# EAGLE library part DSPIC30F6012 (library @Club_Microchip_divers-)
dsPIC General DSC with CAN and CoDec ports
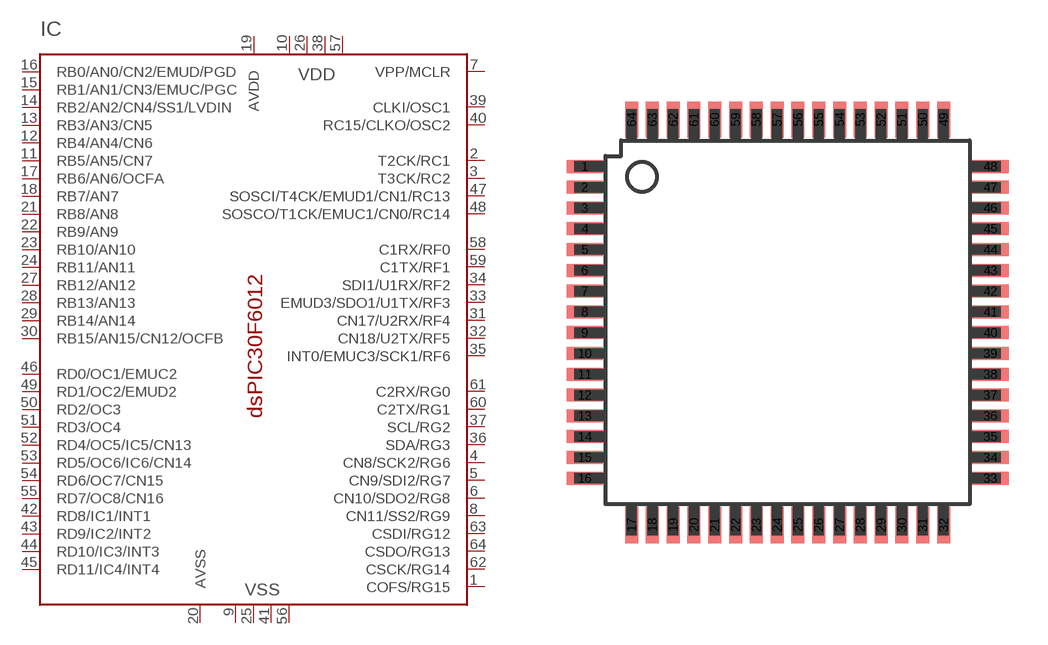
[diagram p5: symbol with the pads of TQFP64; footprint TQFP64]

Designator prefix IC

## DSPIC30F6012/PF  [TQFP64]
1  COFS/RG15
2  T2CK/RC1
3  T3CK/RC2
4  CN8/SCK2/RG6
5  CN9/SDI2/RG7
6  CN10/SDO2/RG8
7  VPP/MCLR  in
8  CN11/SS2/RG9
9  VSS  pwr
10  VDD  pwr
11  RB5/AN5/CN7
12  RB4/AN4/CN6
13  RB3/AN3/CN5
14  RB2/AN2/CN4/SS1/LVDIN
15  RB1/AN1/CN3/EMUC/PGC
16  RB0/AN0/CN2/EMUD/PGD
17  RB6/AN6/OCFA
18  RB7/AN7
19  AVDD  pwr
20  AVSS  pwr
21  RB8/AN8
22  RB9/AN9
23  RB10/AN10
24  RB11/AN11
25  VSS  pwr
26  VDD  pwr
27  RB12/AN12
28  RB13/AN13
29  RB14/AN14
30  RB15/AN15/CN12/OCFB
31  CN17/U2RX/RF4
32  CN18/U2TX/RF5
33  EMUD3/SDO1/U1TX/RF3
34  SDI1/U1RX/RF2
35  INT0/EMUC3/SCK1/RF6
36  SDA/RG3
37  SCL/RG2
38  VDD  pwr
39  CLKI/OSC1  in
40  RC15/CLKO/OSC2
41  VSS  pwr
42  RD8/IC1/INT1
43  RD9/IC2/INT2
44  RD10/IC3/INT3
45  RD11/IC4/INT4
46  RD0/OC1/EMUC2
47  SOSCI/T4CK/EMUD1/CN1/RC13
48  SOSCO/T1CK/EMUC1/CN0/RC14
49  RD1/OC2/EMUD2
50  RD2/OC3
51  RD3/OC4
52  RD4/OC5/IC5/CN13
53  RD5/OC6/IC6/CN14
54  RD6/OC7/CN15
55  RD7/OC8/CN16
56  VSS  pwr
57  VDD  pwr
58  C1RX/RF0
59  C1TX/RF1
60  C2TX/RG1
61  C2RX/RG0
62  CSCK/RG14
63  CSDI/RG12
64  CSDO/RG13

## Footprint TQFP64 (pad centres in mm)
Thin Quad Flat Pack
smd 1.4 x 0.5: 1 -7.8,6; 2 -7.8,5.2; 3 -7.8,4.4; 4 -7.8,3.6; 5 -7.8,2.8; 6 -7.8,2; 7 -7.8,1.2; 8 -7.8,0.4; 9 -7.8,-0.4; 10 -7.8,-1.2; 11 -7.8,-2; 12 -7.8,-2.8; 13 -7.8,-3.6; 14 -7.8,-4.4; 15 -7.8,-5.2; 16 -7.8,-6; 33 7.8,-6; 34 7.8,-5.2; 35 7.8,-4.4; 36 7.8,-3.6; 37 7.8,-2.8; 38 7.8,-2; 39 7.8,-1.2; 40 7.8,-0.4; 41 7.8,0.4; 42 7.8,1.2; 43 7.8,2; 44 7.8,2.8; 45 7.8,3.6; 46 7.8,4.4; 47 7.8,5.2; 48 7.8,6
smd 0.5 x 1.4: 17 -6,-7.8; 18 -5.2,-7.8; 19 -4.4,-7.8; 20 -3.6,-7.8; 21 -2.8,-7.8; 22 -2,-7.8; 23 -1.2,-7.8; 24 -0.4,-7.8; 25 0.4,-7.8; 26 1.2,-7.8; 27 2,-7.8; 28 2.8,-7.8; 29 3.6,-7.8; 30 4.4,-7.8; 31 5.2,-7.8; 32 6,-7.8; 49 6,7.8; 50 5.2,7.8; 51 4.4,7.8; 52 3.6,7.8; 53 2.8,7.8; 54 2,7.8; 55 1.2,7.8; 56 0.4,7.8; 57 -0.4,7.8; 58 -1.2,7.8; 59 -2,7.8; 60 -2.8,7.8; 61 -3.6,7.8; 62 -4.4,7.8; 63 -5.2,7.8; 64 -6,7.8